# Altium footprint library Power_9812282.PcbLib: 18 footprints (part 1 of 2)
Each footprint in its own frame and in the unit in brackets; x right, y up, seen from the top. Pads: shape width x height; smd on the part's side, far side on the other; paste and mask are expansions set on the pad; w line width, h text height; cw(c..) or ccw(c..) is an arc to the next point about the centre after c.
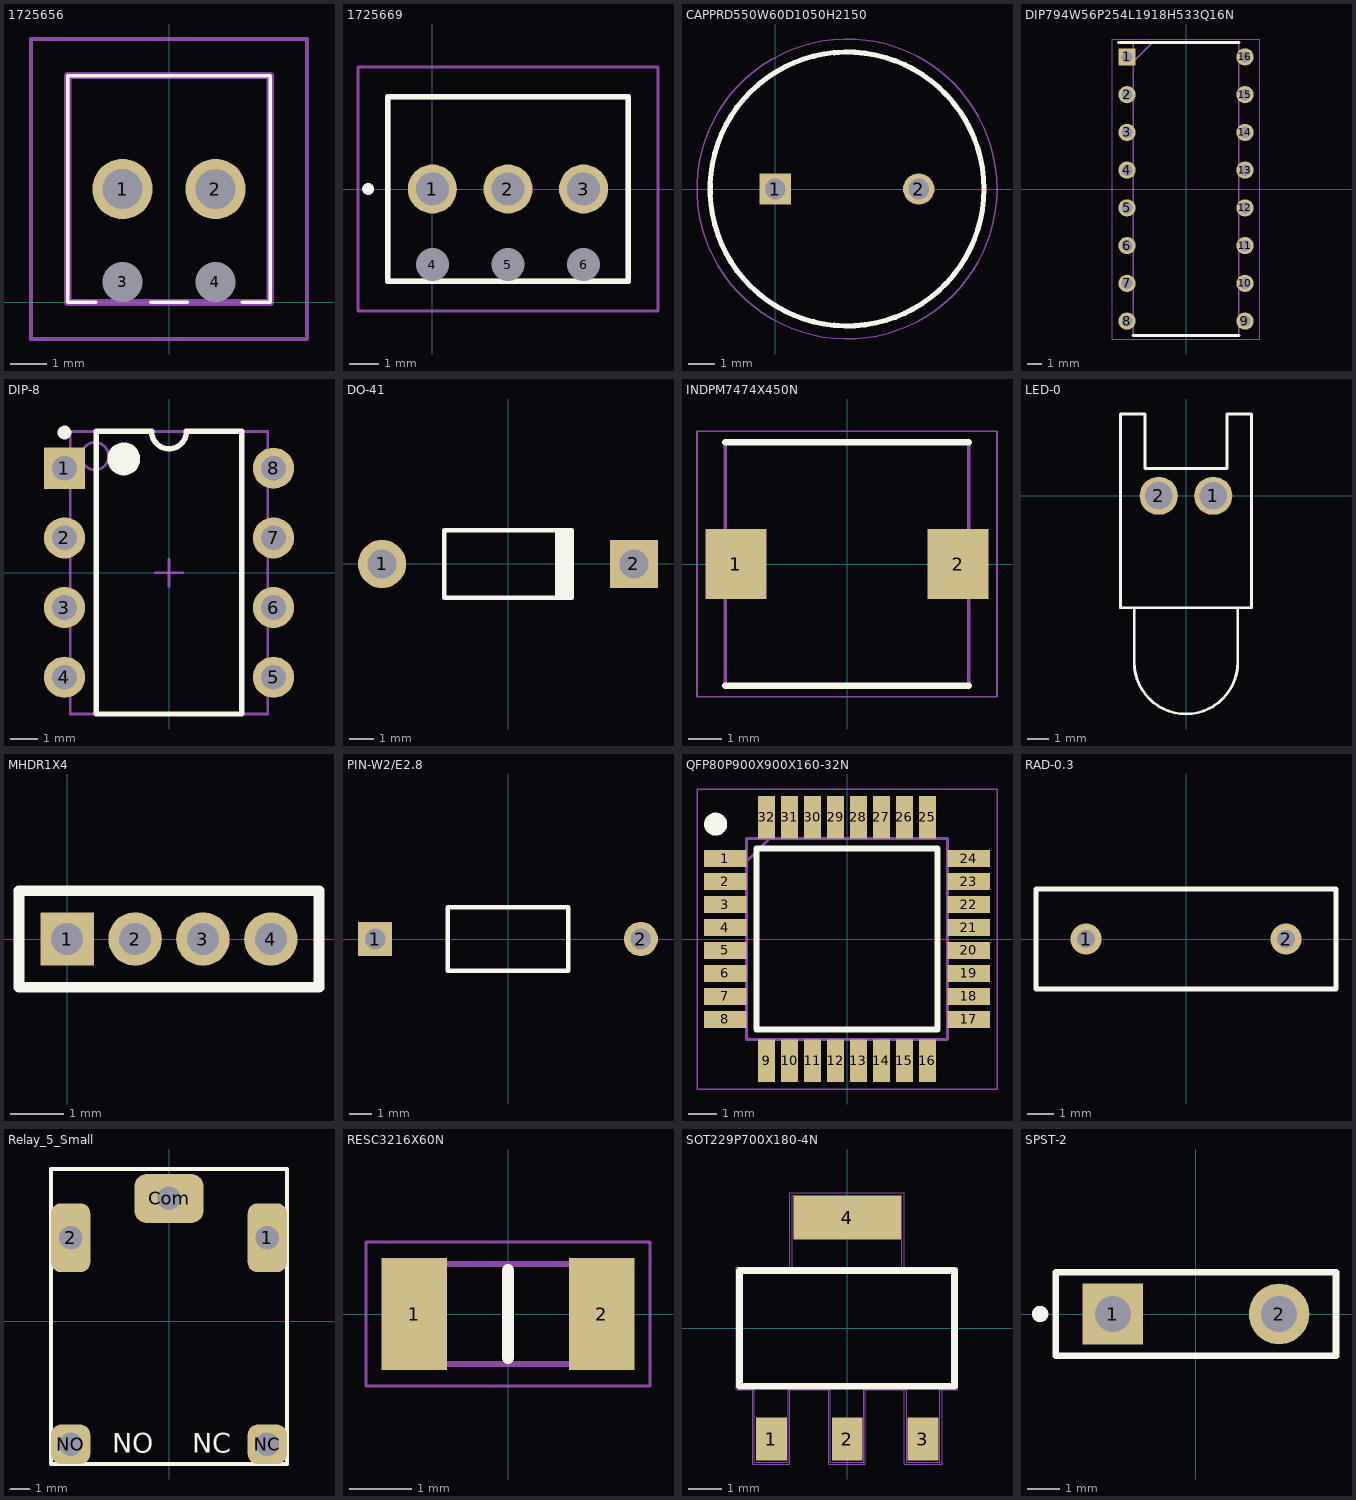
[diagram p0: the footprints below, top view; thin cyan lines are the x and y axes]

## 1725656 [mm]
pads (4):
  round 1.65 hole 1.1: 1(-1.27,3.1) 2(1.27,3.1)
  round 0.55 hole 1.1 unplated: 3(-1.27,0.56) 4(1.27,0.56)
Top Overlay:
  lines w0.1: -2,0 -2.77,0 -2.77,6.2 2.77,6.2 2.77,0 2,0 ; -0.5,0 0.5,0
Mechanical 13:
  lines w0.2: -2.77,0 2.77,0 2.77,6.2 -2.77,6.2 -2.77,0
Mechanical 15:
  lines w0.1: -3.77,-1 3.77,-1 3.77,7.2 -3.77,7.2 -3.77,-1
3D body "1725656.stp": height 8, standoff -5, extent -2.77,0 2.77,6.2

## 1725669 [mm]
pads (6):
  round 1.65 hole 1.1: 1(0,0) 2(2.54,0) 3(5.08,0)
  round 0.55 hole 1.1 unplated: 4(0,-2.54) 5(2.54,-2.54) 6(5.08,-2.54)
Top Overlay:
  lines w0.1: -1.5,-3.1 -1.5,3.1 6.58,3.1 6.58,-3.1
  lines w0.2: -2.26,0 ccw(c-2.16,0) -2.06,0 ccw(c-2.16,0) -2.26,0 ; -1.5,-3.1 -1.5,3.1 6.58,3.1 6.58,-3.1 -1.5,-3.1
Mechanical 13:
  lines w0.2: -1.5,-3.1 -1.5,3.1 6.58,3.1 6.58,-3.1 -1.5,-3.1
Mechanical 15:
  lines w0.1: -2.5,-4.1 -2.5,4.1 7.58,4.1 7.58,-4.1 -2.5,-4.1
3D body "1725669.stp": height 8.5, standoff -5, extent -1.5,-3.1 6.58,3.1

## CAPPRD550W60D1050H2150 [mm]
pads (2):
  rect 1.2x1.2 hole 0.8: 1(0,0)
  round 1.2 hole 0.8: 2(5.5,0)
Top Overlay:
  circle w0.2: c2.75,0 r5.25
Mechanical 13:
  circle w0.1: c2.75,0 r5.25
Mechanical 15:
  circle w0.05: c2.75,0 r5.75
3D body "108CKE025M.stp": height 21.5, standoff -10, extent -2.5,-5.247 8,5.247

## DIP794W56P254L1918H533Q16N [mm]
pads (16):
  rect 1.16x1.16 hole 0.76: 1(-3.97,8.89)
  round 1.16 hole 0.76: 2(-3.97,6.35) 3(-3.97,3.81) 4(-3.97,1.27) 5(-3.97,-1.27) 6(-3.97,-3.81) 7(-3.97,-6.35) 8(-3.97,-8.89) 9(3.97,-8.89) 10(3.97,-6.35) 11(3.97,-3.81) 12(3.97,-1.27) 13(3.97,1.27) 14(3.97,3.81) 15(3.97,6.35) 16(3.97,8.89)
Top Overlay:
  lines w0.2: -4.55,9.845 3.555,9.845 ; -3.555,-9.845 3.555,-9.845
Mechanical 13:
  lines w0.1: -3.555,8.575 -2.285,9.845 ; -3.555,-9.845 3.555,-9.845 3.555,9.845 -3.555,9.845 -3.555,-9.845
Mechanical 15:
  lines w0.05: -4.96,-10.095 4.96,-10.095 4.96,10.095 -4.96,10.095 -4.96,-10.095
3D body "ULN2003A.stp": height 5.33, standoff -3.5, extent -4.11,-9.59 4.11,9.59

## DIP-8 [mm] "DIP; 8 Leads; Row Spacing 7.62 mm; Pitch 2.54 mm"
height 5.08
pads (8):
  rect 1.5x1.5 hole 0.9: 1(-3.81,3.81)
  round 1.5 hole 0.9: 2(-3.81,1.27) 3(-3.81,-1.27) 4(-3.81,-3.81) 5(3.81,-3.81) 6(3.81,-1.27) 7(3.81,1.27) 8(3.81,3.81)
Top Overlay:
  circle w0.6: c-1.65,4.15 r0.3
  circle w0.25: c-3.81,5.11 r0.125
  lines w0.2: -2.65,-5.15 2.65,-5.15 2.65,5.15 0.635,5.15 cw(c0,5.15) -0.635,5.15 -2.65,5.15 -2.65,-5.15
Mechanical 13:
  circle w0.1: c-2.7,4.25 r0.5
  lines w0.1: -3.6,-5.15 3.6,-5.15 3.6,5.15 -3.6,5.15 -3.6,-5.15
Mechanical 15:
  lines w0.1: -0.5,0 0.5,0 ; 0,-0.5 0,0.5
3D body: height 5.08, standoff 0, extent -3.6,-5.15 3.6,5.15

## DO-41 [mm] "Diode, Axial; Body 5.2 x 2.7 mm (LxDia. max), Lead Dia. 0.86 mm (max)"
height 2.8
pads (2):
  round 2 hole 1.2: 1(-5.23,0)
  rect 2x2 hole 1.2: 2(5.23,0)
Top Overlay:
  rectangle: 1.95,-1.4 2.75,1.4
  lines w0.2: 2.65,-1.4 -2.65,-1.4 -2.65,1.4 2.65,1.4

## INDPM7474X450N [mm]
pads (2):
  rect 1.85x2.1 smd: 1(-3.35,0) 2(3.35,0)
Top Overlay:
  lines w0.2: -3.675,-3.675 3.675,-3.675 ; -3.675,3.675 3.675,3.675
Mechanical 13:
  lines w0.1: -3.675,-3.675 3.675,-3.675 3.675,3.675 -3.675,3.675 -3.675,-3.675
Mechanical 15:
  lines w0.05: -4.525,-4 4.525,-4 4.525,4 -4.525,4 -4.525,-4
3D body "B82472P6152M000.stp": height 4.5, standoff 0, extent -3.675,-3.675 3.675,3.675

## LED-0 [mil] "LED; 2 Leads"
pads (2):
  round 70 hole 50: 1(50,0) 2(-50,0)
Top Overlay:
  lines w5: -95,-205 -95,-305 ccw(c0,-305) 95,-305 95,-205 ; -120,-205 -120,150 -75,150 -75,50 75,50 75,150 120,150 120,-205 -120,-205

## MHDR1X4 [mm] "Connector; Header; 4 Position"
pads (4):
  rect 1x1 hole 0.6: 1(0,0)
  round 1 hole 0.6: 2(1.27,0) 3(2.54,0) 4(3.81,0)
Top Overlay:
  lines w0.2: -0.9,-0.9 4.71,-0.9 4.71,0.9 -0.9,0.9 -0.9,-0.9

## PIN-W2/E2.8 [mm] "Thru-Hole; 2 Leads"
pads (2):
  rect 1.5x1.5 hole 0.9: 1(-5.825,0)
  round 1.5 hole 0.9: 2(5.825,0)
Top Overlay:
  lines w0.2: -2.65,-1.4 -2.65,1.4 2.65,1.4 2.65,-1.4 -2.65,-1.4

## QFP80P900X900X160-32N [mm]
height 1
pads (32):
  rect 1.475x0.6 smd: 1(-4.238,2.8) 2(-4.238,2) 3(-4.238,1.2) 4(-4.238,0.4) 5(-4.238,-0.4) 6(-4.238,-1.2) 7(-4.238,-2) 8(-4.238,-2.8) 17(4.238,-2.8) 18(4.238,-2) 19(4.238,-1.2) 20(4.238,-0.4) 21(4.238,0.4) 22(4.238,1.2) 23(4.238,2) 24(4.238,2.8)
  rect 0.6x1.475 smd: 9(-2.8,-4.238) 10(-2,-4.238) 11(-1.2,-4.238) 12(-0.4,-4.238) 13(0.4,-4.238) 14(1.2,-4.238) 15(2,-4.238) 16(2.8,-4.238) 25(2.8,4.238) 26(2,4.238) 27(1.2,4.238) 28(0.4,4.238) 29(-0.4,4.238) 30(-1.2,4.238) 31(-2,4.238) 32(-2.8,4.238)
Top Overlay:
  circle w0.4: c-4.575,4 r0.2
  lines w0.2: -3.15,-3.15 -3.15,3.15 3.15,3.15 3.15,-3.15 -3.15,-3.15
Mechanical 13:
  lines w0.1: -3.5,2.7 -2.7,3.5 ; -3.5,-3.5 -3.5,3.5 3.5,3.5 3.5,-3.5 -3.5,-3.5
Mechanical 15:
  lines w0.05: -5.225,-5.225 -5.225,5.225 5.225,5.225 5.225,-5.225 -5.225,-5.225
3D body "STM8S903K3T6C.stp": height 1.6, standoff 0, extent -4.5,-4.5 4.5,4.5

## RAD-0.3 [mm] "Radial Cap, Thru-Hole; 2 Leads; 0.3 in Pin Spacing"
height 6
pads (2):
  round 1.2 hole 0.7: 1(-3.81,0) 2(3.81,0)
Top Overlay:
  lines w0.2: -5.715,-1.905 -5.715,1.905 5.715,1.905 5.715,-1.905 -5.715,-1.905

## Relay_5_Small [mm]
height 13
pads (5):
  rrect50% 2x3.5 hole 1.2: 1(5,4.25) 2(-5,4.25)
  rrect50% 3.5x2.5 hole 1.2: Com(0,6.25)
  rrect50% 2x2 hole 1.2: NC(5,-6.25) NO(-5,-6.25)
Top Overlay:
  lines w0.2: -6,-7.25 6,-7.25 6,7.75 -6,7.75 -6,-7.25
  text "NC" at 1.194,-6.68 h1
  text "NO" at -2.896,-6.68 h1
3D body "User Library-T74 4181.STEP": height 13.71, standoff -3.89, extent -6.131,-7.583 6.17,8.117

## RESC3216X60N [mm]
pads (2):
  rect 1.05x1.8 smd: 1(-1.5,0) 2(1.5,0)
Top Overlay:
  lines w0.2: 0,-0.7 0,0.7
Mechanical 13:
  lines w0.1: -1.575,-0.8 -1.575,0.8 1.575,0.8 1.575,-0.8 -1.575,-0.8
Mechanical 15:
  lines w0.05: -2.275,-1.15 -2.275,1.15 2.275,1.15 2.275,-1.15 -2.275,-1.15
3D body "CRCW120610M0FKEA.stp": height 0.6, standoff 0, extent -1.575,-0.8 1.575,0.8

## SOT229P700X180-4N [mm]
pads (4):
  rect 0.93x1.31 smd: 1(-2.285,-3.345) 2(0.005,-3.345) 3(2.295,-3.345)
  rect 3.24x1.31 smd: 4(0.005,3.345)
Top Overlay:
  lines w0.203: -3.25,-1.75 3.25,-1.75 3.25,1.75 -3.25,1.75 -3.25,-1.75
Mechanical 16:
  lines w0.013: -3.35,-1.85 -3.35,1.85 ; -3.35,-1.85 -2.85,-1.85 -2.85,-4.1 -1.725,-4.1 -1.725,-1.85 -0.55,-1.85 -0.55,-4.1 0.55,-4.1 0.55,-1.85 1.725,-1.85 1.725,-4.1 2.875,-4.1 2.875,-1.85 3.35,-1.85 ; -3.35,-1.85 -2.8,-1.85 -2.8,-4.05 -1.775,-4.05 -1.775,-1.85 -0.5,-1.85 -0.5,-4.05 0.5,-4.05 0.5,-1.85 1.8,-1.85 1.8,-2.7 1.8,-4.05 2.8,-4.05 2.8,-1.85 3.35,-1.85 ; -3.35,-1.85 -3.35,1.85 ; -3.35,1.85 -1.725,1.85 -1.725,4.1 1.725,4.1 1.725,1.85 3.35,1.85 ; -3.35,1.85 -1.65,1.85 -1.65,4.025 1.65,4.025 1.65,1.85 3.35,1.85 ; 3.35,-1.85 3.35,1.85 ; 3.35,-1.85 3.35,1.85

## SPST-2 [mm] "Switch; 2 Leads"
pads (2):
  rect 1.85x1.85 hole 1.1: 1(-2.54,0)
  round 1.85 hole 1.1: 2(2.54,0)
Top Overlay:
  circle w0.25: c-4.761,-0.001 r0.125
  lines w0.2: -4.28,-1.27 -4.28,1.27 4.28,1.27 4.28,-1.27 -4.28,-1.27